# Altium footprint library CA_CANTHD63P25_H110_R.PcbLib: 1 footprints
Each footprint in its own frame and in the unit in brackets; x right, y up, seen from the top. Pads: shape width x height; smd on the part's side, far side on the other; paste and mask are expansions set on the pad; w line width, h text height; cw(c..) or ccw(c..) is an arc to the next point about the centre after c.
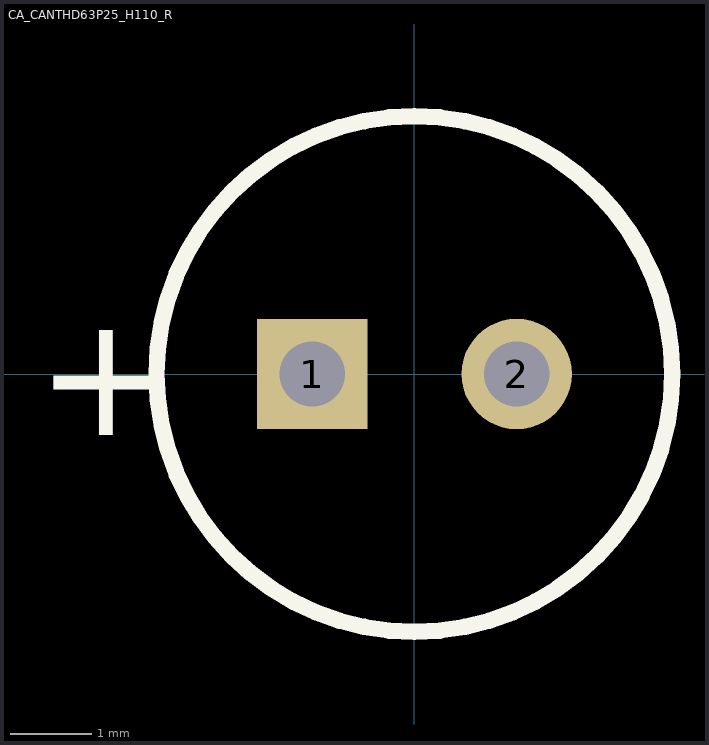
[diagram p0: the footprint, top view; thin cyan lines are the x and y axes]

## CA_CANTHD63P25_H110_R [mm] "Capacitor, Electrolytic, Radial; Body 6.3 x 11 mm (Dia.xH typ); Pin Spacing 2.5 mm (typ)"
height 12
pads (2):
  rect 1.35x1.35 hole 0.8: 1(-1.25,0)
  round 1.35 hole 0.8: 2(1.25,0)
Top Overlay:
  circle w0.2: c0,0 r3.15
  text "+" at -4.625,-0.75 h1.5
3D body: height 11, standoff -2.5, extent -3.165,-3.165 3.165,3.165